# Altium schematic symbol library SCH - MCU - NUVOTON - NUVOTON NANO103ZD3AE.SchLib: 1 symbol
Pins are listed as number, name and electrical type; pins without a type are passive.

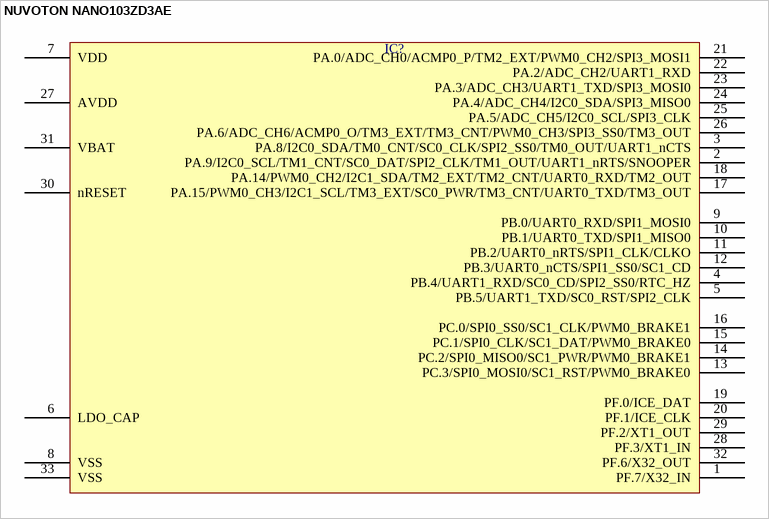
[diagram p0: symbol NUVOTON NANO103ZD3AE]

## NUVOTON NANO103ZD3AE
designator IC?  (value not drawn)
pins: 1 PF.7/X32_IN, 2 PA.9/I2C0_SCL/TM1_CNT/SC0_DAT/SPI2_CLK/TM1_OUT/UART1_nRTS/SNOOPER, 3 PA.8/I2C0_SDA/TM0_CNT/SC0_CLK/SPI2_SS0/TM0_OUT/UART1_nCTS, 4 PB.4/UART1_RXD/SC0_CD/SPI2_SS0/RTC_HZ, 5 PB.5/UART1_TXD/SC0_RST/SPI2_CLK, 6 LDO_CAP, 7 VDD, 8 VSS, 9 PB.0/UART0_RXD/SPI1_MOSI0, 10 PB.1/UART0_TXD/SPI1_MISO0, 11 PB.2/UART0_nRTS/SPI1_CLK/CLKO, 12 PB.3/UART0_nCTS/SPI1_SS0/SC1_CD, 13 PC.3/SPI0_MOSI0/SC1_RST/PWM0_BRAKE0, 14 PC.2/SPI0_MISO0/SC1_PWR/PWM0_BRAKE1, 15 PC.1/SPI0_CLK/SC1_DAT/PWM0_BRAKE0, 16 PC.0/SPI0_SS0/SC1_CLK/PWM0_BRAKE1, 17 PA.15/PWM0_CH3/I2C1_SCL/TM3_EXT/SC0_PWR/TM3_CNT/UART0_TXD/TM3_OUT, 18 PA.14/PWM0_CH2/I2C1_SDA/TM2_EXT/TM2_CNT/UART0_RXD/TM2_OUT, 19 PF.0/ICE_DAT, 20 PF.1/ICE_CLK, 21 PA.0/ADC_CH0/ACMP0_P/TM2_EXT/PWM0_CH2/SPI3_MOSI1, 22 PA.2/ADC_CH2/UART1_RXD, 23 PA.3/ADC_CH3/UART1_TXD/SPI3_MOSI0, 24 PA.4/ADC_CH4/I2C0_SDA/SPI3_MISO0, 25 PA.5/ADC_CH5/I2C0_SCL/SPI3_CLK, 26 PA.6/ADC_CH6/ACMP0_O/TM3_EXT/TM3_CNT/PWM0_CH3/SPI3_SS0/TM3_OUT, 27 AVDD, 28 PF.3/XT1_IN, 29 PF.2/XT1_OUT, 30 nRESET, 31 VBAT, 32 PF.6/X32_OUT, 33 VSS